# Altium schematic symbol library 2092-1172000-1000.SchLib: 2 symbols
Pins are listed as number, name and electrical type; pins without a type are passive.

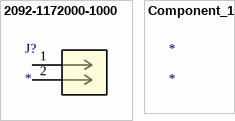
[diagram p0: symbols 2092-1172000-1000 to Component_1]

## 2092-1172000-1000
designator J?
No Description Available; Mfr_Name: Wago; RefDes: RefDes; Type: Type
footprint CONN2_2000-1000_WAG
pins: 1, 2

## Component_1
designator *